# Altium schematic symbol library Diode.SchLib: 6 symbols
Pins are listed as number, name and electrical type; pins without a type are passive.

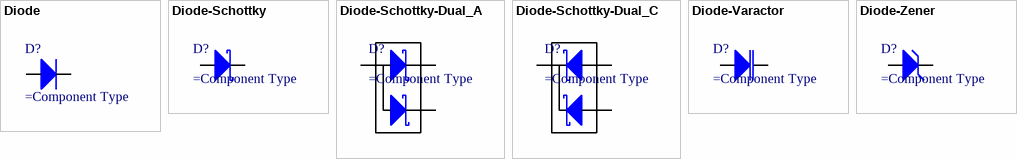
[diagram p0: symbols Diode to Diode-Zener]

## Diode
designator D?
Diode
pins: 1, 2

## Diode-Schottky
designator D?
Schottky Diode
pins: 1 A, 2 K

## Diode-Schottky-Dual_A
designator D?
Schottky Diode
pins: 1 K1, 2 K2, 3 A

## Diode-Schottky-Dual_C
designator D?
Schottky Diode
pins: 1 A1, 2 A2, 3 K

## Diode-Varactor
designator D?
pins: 1 ANODE, 2 CATHODE

## Diode-Zener
designator D?
pins: 1 ANODE, 2 CATHODE